# Altium integrated library meder.IntLib: 1 symbol
Pins are listed as number, name and electrical type; pins without a type are passive.

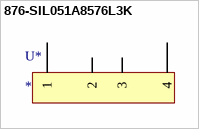
[diagram p0: symbol 876-SIL051A8576L3K]

## 876-SIL051A8576L3K
designator U*
footprint 876-SIL051A8576L3K
pins: 1, 2, 3, 4